# Altium footprint library Resistors.PcbLib: 16 footprints
Each footprint in its own frame and in the unit in brackets; x right, y up, seen from the top. Pads: shape width x height; smd on the part's side, far side on the other; paste and mask are expansions set on the pad; w line width, h text height; cw(c..) or ccw(c..) is an arc to the next point about the centre after c.
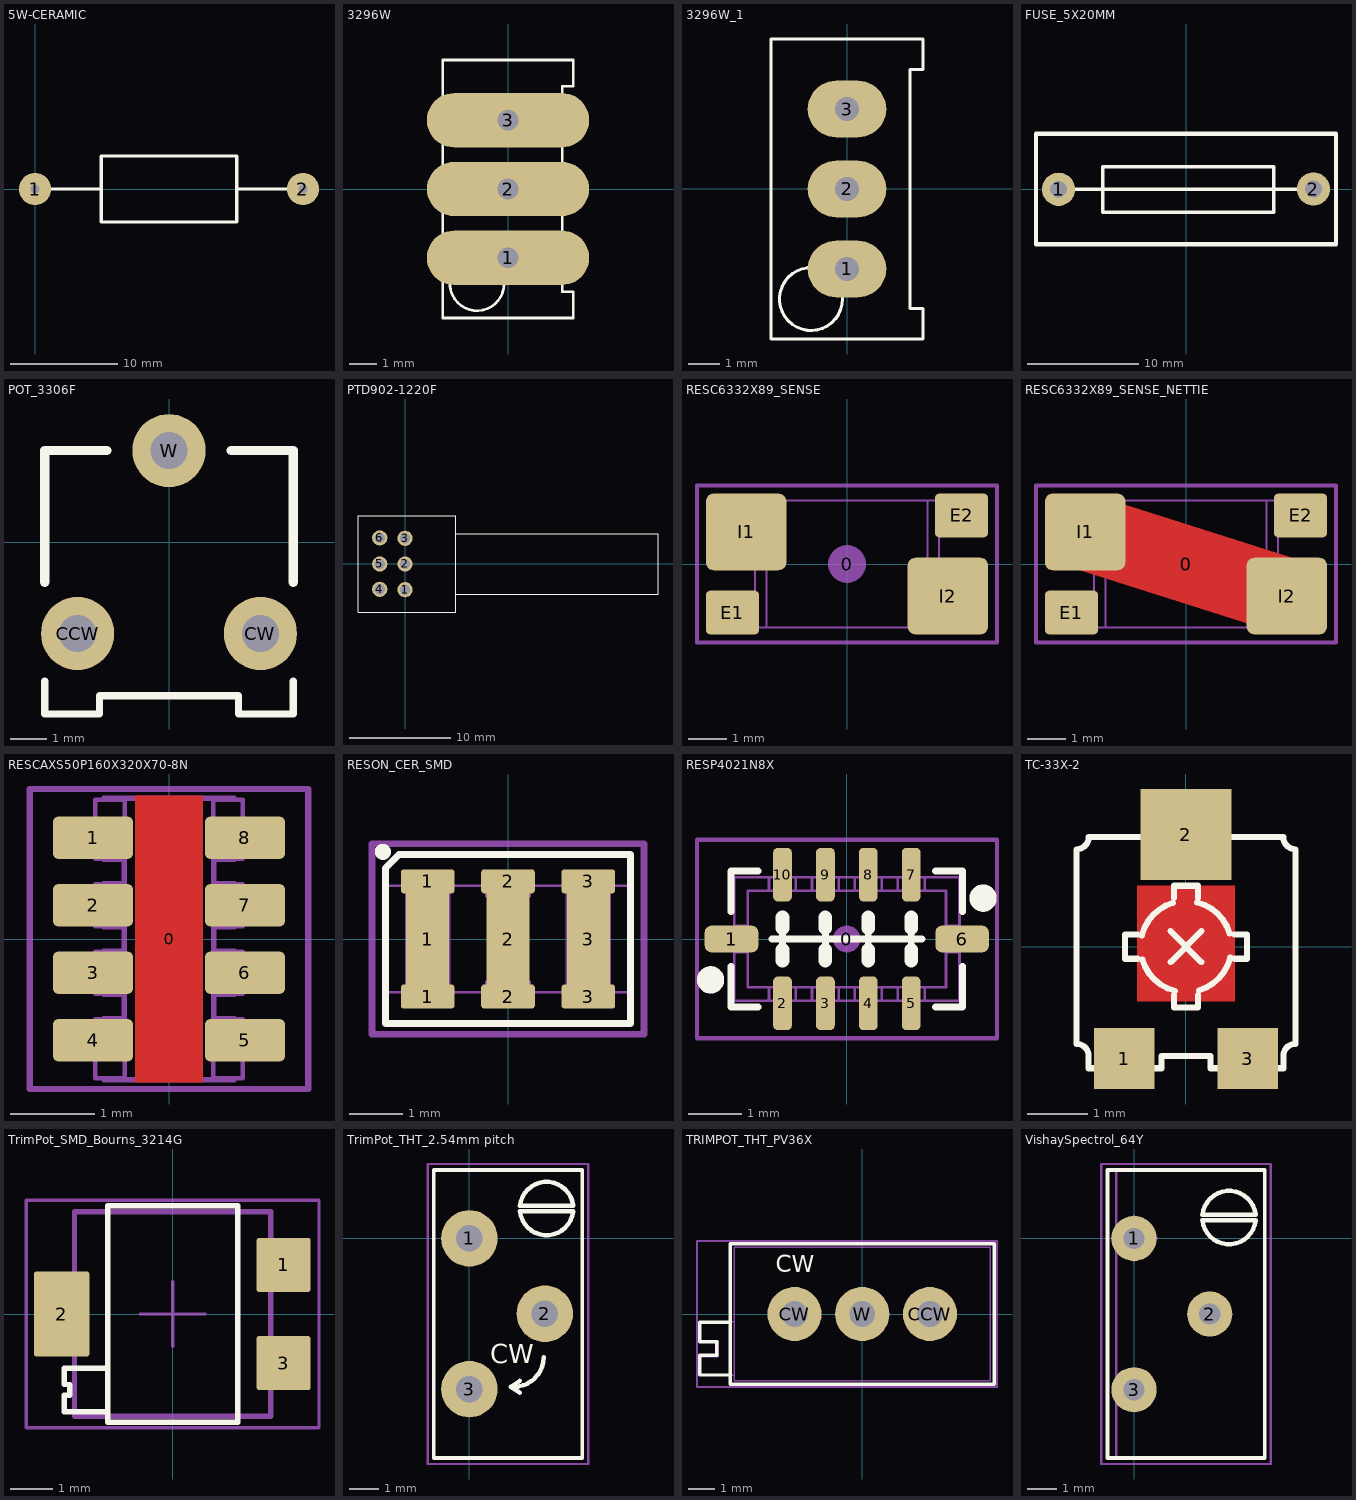
[diagram p0: the footprints below, top view; thin cyan lines are the x and y axes]

## 5W-CERAMIC [mm]
pads (2):
  round 3 hole 0.85: 1(0,0) 2(25.1,0)
Top Overlay:
  lines w0.3: 0,0 6.2,0 ; 25.1,0 18.9,0 ; 6.2,0 6.2,3.1 12.55,3.1 18.9,3.1 18.9,0 ; 6.2,0 6.2,-3.1 12.55,-3.1 18.9,-3.1 18.9,0
3D body "User Library-5W1.step": height 9.01, standoff -2.11, extent -0.4,-4.75 25.407,4.75

## 3296W [mm] "BOURNS 10-turn trimmer, 3296W type (THT)"
height 10
pads (3):
  oval 6x2 hole 0.762: 1(0,-2.54) 2(0,0) 3(0,2.54)
Top Overlay:
  circle w0.1: c-1.145,-3.495 r1
  lines w0.1: -2.415,-4.765 -2.415,4.765 2.415,4.765 2.415,3.8 2,3.8 2,-3.8 2.415,-3.8 2.415,-4.765 -2.415,-4.765
3D body "User Library-3296W.step": height 11.55, standoff -1.6, extent -2.4,-4.765 2.4,4.765

## 3296W_1 [mm] "BOURNS 10-turn trimmer, 3296W type (THT)"
height 10
pads (3):
  oval 2.5x1.8 hole 0.762: 1(0,-2.54) 2(0,0) 3(0,2.54)
Top Overlay:
  circle w0.1: c-1.145,-3.495 r1
  lines w0.1: -2.415,-4.765 -2.415,4.765 2.415,4.765 2.415,3.8 2,3.8 2,-3.8 2.415,-3.8 2.415,-4.765 -2.415,-4.765
3D body "User Library-3296W.step": height 11.55, standoff -1.6, extent -2.4,-4.765 2.4,4.765

## FUSE_5X20MM [mm]
pads (2):
  round 3 hole 1.5: 1(-11.493,-0.025) 2(11.493,0)
Top Overlay:
  lines w0.3: -11.493,-0.025 11.493,-0.025 ; -3.8,-0.025 0,-0.025 -7.5,-0.025 ; -7.5,-0.025 -7.5,2 7.9,2 7.9,-2.1 -7.5,-2.1 -7.5,-0.025
  lines w0.4: -13.525,-4.978 13.525,-4.978 13.525,4.978 -13.525,4.978 -13.525,-4.978
3D body "User Library-5x20mm PCB Fuse Holder Assy_ 1.STEP": height 14.07, standoff -4.28, extent -12.15,-4.485 12.1,4.515

## POT_3306F [mm]
pads (3):
  round 2 hole 1.016: CCW(-2.5,-2.5) CW(2.5,-2.5) W(0,2.5)
Top Overlay:
  lines w0.2: -3.4,-3.8 -3.4,-4.7 -1.9,-4.7 -1.9,-4.2 0,-4.2 1.9,-4.2 1.9,-4.7 3.4,-4.7 3.4,-3.8
  lines w0.254: -3.4,-1.1 -3.4,2.5 -1.7,2.5 ; 1.7,2.5 3.4,2.5 3.4,-1.1
3D body "Trimmer, 3306F.step": height 7.62, standoff -3.04, extent -3.405,-4.876 3.405,3.79

## PTD902-1220F [mm]
pads (6):
  round 1.5 hole 1: 1(0,-2.54) 2(0,0) 3(0,2.54) 4(-2.5,-2.5) 5(-2.5,0) 6(-2.5,2.58)
Top Overlay:
  lines w0.1: 5,-3 25,-3 25,3 5,3 ; -4.65,-4.75 5,-4.75 5,4.75 -4.65,4.75 -4.65,-4.75
3D body "PTD90x_Series.STEP": height 11.8, standoff -3, extent -4.652,-4.75 20,4.75

## RESC6332X89_SENSE [mil] "SMD Sense Resistor with Kelvin terminations, Body 6.3x3.2mm, 2512, IPC Medium Density"
height 35.04
pads (5):
  round 39.37 on Mech15: 0(0,0)
  rrect20% 55x45 smd paste-27.56: E1(-118,-50) E2(118,50)
  rrect20% 83x79 smd paste-43.31: I1(-104,33) I2(104,-33)
Mechanical 13:
  circle w1.97: c0,0 r9.84
  lines w1.97: -82.91,-65.45 -82.91,65.45 ; 82.91,-65.45 82.91,65.45 ; -129.92,-65.45 -129.92,-31.99 -94.72,-31.99 -94.72,1.48 -129.92,1.48 -129.92,65.45 129.92,65.45 129.92,31.99 94.72,31.99 94.72,-1.48 129.92,-1.48 129.92,-65.45 -129.92,-65.45
Mechanical 15:
  lines w3.94: -154.53,-80.71 -154.53,80.71 154.53,80.71 154.53,-80.71 -154.53,-80.71
3D body "RESC6332X89_119T_KELVIN.STEP": height 34.84, standoff 0, extent -129.91,-65.45 129.93,65.46

## RESC6332X89_SENSE_NETTIE [mil] "SMD Sense Resistor with Kelvin terminations, Body 6.3x3.2mm, 2512, IPC Medium Density"
height 35.04
pads (5):
  round 39.37 on Mech15: 0(0,0)
  rrect20% 55x45 smd paste-27.56: E1(-118,-50) E2(118,50)
  rrect20% 83x79 smd paste-43.31: I1(-104,33) I2(104,-33)
Top Layer:
  lines w78.74: -104,33 104,-33
Mechanical 13:
  circle w1.97: c0,0 r9.84
  lines w1.97: -82.91,-65.45 -82.91,65.45 ; 82.91,-65.45 82.91,65.45 ; -129.92,-65.45 -129.92,-31.99 -94.72,-31.99 -94.72,1.48 -129.92,1.48 -129.92,65.45 129.92,65.45 129.92,31.99 94.72,31.99 94.72,-1.48 129.92,-1.48 129.92,-65.45 -129.92,-65.45
Mechanical 15:
  lines w3.94: -154.53,-80.71 -154.53,80.71 154.53,80.71 154.53,-80.71 -154.53,-80.71
3D body "RESC6332X89_119T_KELVIN.STEP": height 34.84, standoff 0, extent -129.91,-65.45 129.93,65.46

## RESCAXS50P160X320X70-8N [mm] "Resistor Pack, Body 1.6x3.2mm, 4x0603, IPC Medium Density"
height 0.7
pads (9):
  round 0.254 on Mech15: 0(0,0)
  rrect25% 0.95x0.5 smd: 1(-0.9,1.2) 2(-0.9,0.4) 3(-0.9,-0.4) 4(-0.9,-1.2) 5(0.9,-1.2) 6(0.9,-0.4) 7(0.9,0.4) 8(0.9,1.2)
Top Layer:
  pour cut-out: -0.4,1.7 0.4,1.7 0.4,-1.7 -0.4,-1.7
Top Solder:
  region: 1.3,1.2 0.5,1.2 0.5,-1.2 1.3,-1.2
  rectangle: -1.3,-1.2 -0.5,1.2
Mechanical 13:
  lines w0.05: -0.775,-1.65 -0.775,-1.675 0.775,-1.675 0.775,-1.65 ; -0.775,-0.95 -0.775,-0.938 -0.537,-0.938 -0.537,-0.663 -0.775,-0.663 -0.775,-0.65 ; -0.775,-0.15 -0.775,-0.138 -0.537,-0.138 -0.537,0.138 -0.775,0.138 -0.775,0.15 ; -0.775,0.65 -0.775,0.663 -0.537,0.663 -0.537,0.938 -0.775,0.938 -0.775,0.95 ; -0.775,1.65 -0.775,1.675 0.775,1.675 0.775,1.65 ; -0.525,-1.65 -0.875,-1.65 -0.875,-0.95 -0.525,-0.95 ; -0.525,-0.65 -0.875,-0.65 -0.875,-0.15 -0.525,-0.15 ; -0.525,0.15 -0.875,0.15 -0.875,0.65 -0.525,0.65 ; -0.525,0.95 -0.875,0.95 -0.875,1.65 -0.525,1.65 ; 0.525,-1.65 0.875,-1.65 0.875,-0.95 0.525,-0.95 ; 0.525,-0.65 0.875,-0.65 0.875,-0.15 0.525,-0.15 ; 0.525,0.15 0.875,0.15 0.875,0.65 0.525,0.65 ; 0.525,0.95 0.875,0.95 0.875,1.65 0.525,1.65 ; 0.775,-0.95 0.775,-0.938 0.537,-0.938 0.537,-0.663 0.775,-0.663 0.775,-0.65 ; 0.775,-0.15 0.775,-0.138 0.537,-0.138 0.537,0.138 0.775,0.138 0.775,0.15 ; 0.775,0.65 0.775,0.663 0.537,0.663 0.537,0.938 0.775,0.938 0.775,0.95 ; -0.525,-1.663 -0.525,1.663 0.525,1.663 0.525,-1.663 -0.525,-1.663
Mechanical 15:
  lines w0.076: -1.651,-1.778 -1.651,1.778 1.651,1.778 1.651,-1.778 -1.651,-1.778
3D body "RESCAXS50P32X16X70-8N.STEP": height 0.7, standoff 0, extent -0.875,-1.675 0.875,1.675

## RESON_CER_SMD [mm] "SMD Ceramic Resonator 4.5mmx2mm"
height 1.2
pads (9):
  rrect25% 1x0.45 smd: 1(-1.499,-1.074) 1(-1.499,1.075) 2(0,-1.074) 2(0,1.075) 3(1.499,-1.074) 3(1.499,1.075)
  rrect25% 0.8x2.6 smd: 1(-1.499,0) 2(0,0) 3(1.499,0)
Top Overlay:
  circle w0.15: c-2.336,1.626 r0.075
  lines w0.127: -2.286,-1.575 2.286,-1.575 ; -2.286,-1.549 -2.286,1.321 -2.032,1.575 2.286,1.575 2.286,-1.549
Mechanical 13:
  lines w0.05: -1.9,-0.995 -1.1,-0.995 ; -1.9,-0.995 -1.9,0.995 ; -1.9,-0.995 -2.25,-0.994 -2.25,0.994 -1.9,0.995 ; -1.9,0.995 -1.1,0.995 ; -1.1,-0.995 -1.1,0.995 ; -1.1,-0.995 -0.4,-0.994 ; -1.1,0.994 -0.4,0.995 ; -0.4,-0.995 0.4,-0.995 ; -0.4,-0.995 -0.4,-0.795 0.4,-0.795 0.4,-0.995 ; -0.4,0.995 0.4,0.995 ; -0.4,0.995 -0.4,0.795 0.4,0.795 0.4,0.995 ; 0.4,-0.995 1.1,-0.994 ; 0.4,0.994 1.1,0.995 ; 1.1,-0.995 1.9,-0.995 ; 1.1,-0.995 1.1,0.995 ; 1.1,0.995 1.9,0.995 ; 1.9,-0.995 1.9,0.995 ; 1.9,-0.995 2.25,-0.994 2.25,0.994 1.9,0.995
Mechanical 15:
  lines w0.127: -2.54,-1.778 -2.54,1.778 2.54,1.778 2.54,-1.778 -2.54,-1.778
3D body "RESON_CERM.STEP": height 1.19, standoff 0, extent -2.25,-0.995 2.25,0.995

## RESP4021N8X [mm] "Resistor Pack, Body 4.0x2.1mm, 8 elements bussed, IPC Medium Density"
height 0.65
pads (11):
  round 0.508 on Mech15: 0(0,0)
  rrect50% 1x0.5 smd: 1(-2.15,0) 6(2.15,0)
  rrect50% 0.35x1 smd: 2(-1.2,-1.2) 3(-0.4,-1.2) 4(0.4,-1.2) 5(1.2,-1.2) 7(1.2,1.2) 8(0.4,1.2) 9(-0.4,1.2) 10(-1.2,1.2)
Top Overlay:
  circle w0.254: c-2.54,-0.762 r0.127
  circle w0.254: c2.54,0.762 r0.127
  lines w0.127: -2.159,-0.508 -2.159,-1.27 -1.651,-1.27 ; -2.159,0.508 -2.159,1.27 -1.651,1.27 ; -1.4,0 1.4,0 ; -1.2,-0.2 -1.2,0.2 ; -0.4,-0.2 -0.4,0.2 ; 0.4,-0.2 0.4,0.2 ; 1.2,-0.2 1.2,0.2 ; 1.651,-1.27 2.159,-1.27 2.159,-0.508 ; 1.651,1.27 2.159,1.27 2.159,0.508
  lines w0.254: -1.2,-0.4 -1.2,-0.2 ; -1.2,0.2 -1.2,0.4 ; -0.4,-0.4 -0.4,-0.2 ; -0.4,0.2 -0.4,0.4 ; 0.4,-0.4 0.4,-0.2 ; 0.4,0.2 0.4,0.4 ; 1.2,-0.4 1.2,-0.2 ; 1.2,0.2 1.2,0.4
Mechanical 13:
  lines w0.05: -1.85,-0.25 -2.1,-0.25 ; -1.85,0.25 -2.1,0.25 ; -1.45,-0.9 -1.45,-1.15 ; -1.45,0.9 -1.45,1.15 ; -0.95,-0.9 -0.95,-1.15 ; -0.95,0.9 -0.95,1.15 ; -0.65,-1.149 -0.95,-1.15 ; -0.65,-0.9 -0.65,-1.15 -0.55,-1.15 cw(c-0.4,-1.15) -0.25,-1.15 -0.15,-1.15 ; -0.65,0.9 -0.65,1.15 -0.55,1.15 ccw(c-0.4,1.15) -0.25,1.15 -0.15,1.15 ; -0.65,1.149 -0.95,1.15 ; -0.15,-0.9 -0.15,-1.15 ; -0.15,0.9 -0.15,1.15 ; 0.15,-1.149 -0.15,-1.15 ; 0.15,-0.9 0.15,-1.15 0.25,-1.15 cw(c0.4,-1.15) 0.55,-1.15 0.65,-1.15 ; 0.15,0.9 0.15,1.15 0.25,1.15 ccw(c0.4,1.15) 0.55,1.15 0.65,1.15 ; 0.15,1.149 -0.15,1.15 ; 0.65,-0.9 0.65,-1.15 ; 0.65,0.9 0.65,1.15 ; 0.95,-1.149 0.65,-1.15 ; 0.95,-0.9 0.95,-1.15 1.05,-1.15 cw(c1.2,-1.15) 1.35,-1.15 1.45,-1.15 ; 0.95,0.9 0.95,1.15 1.05,1.15 ccw(c1.2,1.15) 1.35,1.15 1.45,1.15 ; 0.95,1.149 0.65,1.15 ; 1.45,-0.9 1.45,-1.15 ; 1.45,0.9 1.45,1.15 ; 1.85,-0.25 2.1,-0.25 ; 1.85,0.25 2.1,0.25 ; -2.1,-0.25 -2.1,-0.15 ccw(c-2.1,0) -2.1,0.15 -2.1,0.25 ; -2.1,-0.25 -2.099,-1.149 -1.45,-1.15 ; -2.1,0.25 -2.099,1.149 -1.45,1.15 ; -1.45,-1.15 -1.35,-1.15 cw(c-1.2,-1.15) -1.05,-1.15 -0.95,-1.15 ; -1.45,1.15 -1.35,1.15 ccw(c-1.2,1.15) -1.05,1.15 -0.95,1.15 ; 1.45,-1.15 2.099,-1.149 2.1,-0.25 ; 1.45,1.15 2.099,1.149 2.1,0.25 ; 2.1,-0.25 2.1,-0.15 cw(c2.1,0) 2.1,0.15 2.1,0.25 ; -1.85,-0.9 -1.85,0.9 1.85,0.9 1.85,-0.9 -1.85,-0.9
Mechanical 15:
  lines w0.076: -2.794,-1.85 2.8,-1.85 2.8,1.85 -2.794,1.85 -2.794,-1.85
3D body "RES_ARRAY_EXBE.STEP": height 0.65, standoff 0, extent -2.1,-1.15 2.1,1.15

## TC-33X-2 [mm] "Bourns TC-33X2 Series Trim Pot"
height 1.2
pads (3):
  rect 1x1 smd: 1(-1.016,-1.841) 3(1.016,-1.841)
  rect 1.5x1.5 smd: 2(0,1.841)
Top Layer:
  pour cut-out: -0.8,1 0.8,1 0.8,-0.9 -0.8,-0.9
Top Overlay:
  lines w0.1: -1.8,1.594 -1.8,-1.6 cw(c-1.8,-1.8) -1.6,-1.8 -1.6,-2 -0.4,-2 -0.4,-1.8 0.4,-1.8 0.4,-2 1.594,-2 ; -1.8,1.6 ccw(c-1.8,1.8) -1.6,1.8 ; -1.594,1.8 -0.4,1.8 -0.4,1.7 0.4,1.7 0.4,1.8 1.6,1.8 ccw(c1.8,1.8) 1.8,1.6 1.8,-1.6 ccw(c1.8,-1.8) 1.6,-1.8 1.6,-2 ; -0.8,-0.2 -1,-0.2 -1,0.2 -0.8,0.2 ; -0.728,0.182 cw(c0,0) -0.214,0.719 ; -0.719,-0.214 ccw(c0,0) -0.182,-0.728 ; -0.254,-0.254 0.254,0.254 ; -0.254,0.254 0.254,-0.254 ; -0.2,-0.8 -0.2,-1 0.2,-1 0.2,-0.8 ; -0.2,0.8 -0.2,1 0.2,1 0.2,0.8 ; 0.182,0.728 cw(c0,0) 0.719,0.214 ; 0.214,-0.719 ccw(c0,0) 0.728,-0.182 ; 0.8,-0.2 1,-0.2 1,0.2 0.8,0.2
3D body "User Library-TC-33X-2.step": height 1.23, standoff 0.08, extent -1.8,-2.063 1.8,1.9

## TrimPot_SMD_Bourns_3214G [mm] "Bourns- 3214G - TRIMMER"
height 3.81
pads (3):
  rrect10% 1.27x1.27 smd: 1(2.6,1.15) 3(2.6,-1.15)
  rrect10% 1.3x2 smd: 2(-2.6,0)
Top Overlay:
  lines w0.127: -1.524,-2.286 -2.54,-2.286 -2.54,-1.905 -2.413,-1.905 -2.413,-1.651 -2.54,-1.651 -2.54,-1.27 -1.524,-1.27 ; -1.524,-2.54 1.524,-2.54 1.524,2.54 -1.524,2.54 -1.524,-2.54
Mechanical 13:
  lines w0.127: -2.3,-2.4 -2.3,2.4 2.3,2.4 2.3,-2.4 -2.3,-2.4
Mechanical 15:
  lines w0.076: -0.762,0 0.762,0 ; 0,-0.762 0,0.762 ; -3.429,-2.667 -3.429,2.667 3.429,2.667 3.429,-2.667 -3.429,-2.667
3D body "Trimpot 3214G.stp": height 3.9, standoff 0.2, extent -2.3,-2.4 2.3,2.4
3D body: height 0.2, standoff 0, extent -3,-0.65 -1.6,0.65
3D body: height 0.2, standoff 0, extent 1.6,0.7 3,1.6
3D body: height 0.2, standoff 0, extent 1.6,-1.6 3,-0.7
3D body: height 3.9, standoff 3.9, extent -2.3,-2.4 2.3,2.4

## TrimPot_THT_2.54mm pitch [mil] "TRIMMER, MURATA, PV36Y"
height 421.26
pads (3):
  round 75 hole 35: 1(0,0) 2(100,-100) 3(0,-200)
Top Overlay:
  lines w5: -47.24,-291.34 -47.24,90.55 149.61,90.55 149.61,-291.34 -47.24,-291.34
  lines w6: 58.86,-197.05 ccw(c58.86,-157.48) 98.43,-157.48 ; 66.93,-204.72 55.12,-197.05 66.93,-188.98 ; 67.07,35.81 137.65,35.81 ; 67.06,43.31 137.66,43.31 ; 67.12,43.3 cw(c102.36,39.55) 137.6,43.3 ; 67.13,35.81 ccw(c102.36,39.55) 137.59,35.81
  text "CW" at 27.56,-165.35 h25
Mechanical 13:
  lines w3: -47.24,-291.34 -47.24,90.55 149.61,90.55 149.61,-291.34 -47.24,-291.34
Mechanical 15:
  lines w3: -30,0 30,0 ; 0,-30 0,30 ; -55.12,-299.34 157.48,-299.34 157.48,98.66 -55.12,98.66 -55.12,-299.34
3D body "3100-517 TrimPot.stp": height 444.88, standoff -236.22, extent -47.24,-287.4 149.61,90.55

## TRIMPOT_THT_PV36X [mil] "TRIMMER, MURATA, PV36X"
height 393.7
pads (3):
  round 80 hole 38: CCW(100,0) CW(-100,0) W(0,0)
Top Overlay:
  lines w5: -195,-90 -240,-90 -240,-61 -215,-61 -215,-41 -240,-41 -240,-12 -195,-12 ; -195,-104 195,-104 195,104 -195,104 -195,-104
  text "CW" at -127.56,61.69 h25
Mechanical 13:
  lines w1.97: -188.98,-90.55 -240.16,-90.55 -240.16,-62.99 -212.6,-62.99 -212.6,-39.37 -240.16,-39.37 -240.16,-11.81 -188.98,-11.81 ; -188.98,-98.43 -188.98,98.43 188.98,98.43 188.98,-98.43 -188.98,-98.43
Mechanical 15:
  lines w3: -244,-108 -244,108 199,108 199,-108 -244,-108
3D body "Trimmer PV36 Side Adjust.STEP": height 393.7, standoff -110.24, extent -240.16,-98.42 188.98,98.43

## VishaySpectrol_64Y [mil] "VISHAY SPECTROL - 64Y - TRIMMER"
height 437.01
pads (3):
  round 60 hole 28: 1(0,0) 2(100.39,-100.39) 3(0,-200.79)
Top Overlay:
  lines w5: -35.43,-291.34 -35.43,90.55 173.23,90.55 173.23,-291.34 -35.43,-291.34
  lines w6: 90.69,23.81 161.27,23.81 ; 90.68,31.31 161.28,31.31 ; 90.75,23.82 ccw(c125.98,27.55) 161.21,23.82 ; 90.74,31.3 cw(c125.98,27.55) 161.22,31.3
Mechanical 13:
  lines w3: -23.62,-291.34 -23.62,90.55 173.23,90.55 173.23,-291.34 -23.62,-291.34
Mechanical 15:
  lines w3: -30,0 30,0 ; 0,-30 0,30 ; -43.62,-299.34 181.38,-299.34 181.38,98.66 -43.62,98.66 -43.62,-299.34
3D body: height 385.83, standoff 0, extent -23.62,-291.34 173.23,90.55
3D body: height 437.01, standoff 385.83, extent 82.68,-15.75 168.95,70.7